# Altium integrated library RC0402FR-075R9L.IntLib: 1 symbol
Pins are listed as number, name and electrical type; pins without a type are passive.

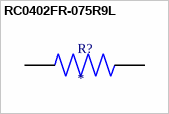
[diagram p0: symbol RC0402FR-075R9L]

## RC0402FR-075R9L
designator R?
Res Thick Film 0402 5.9 Ohm 1% 1/16W Â±200ppm/Â°C Molded SMD Paper T/R; MP: RC0402FR-075R9L; Package: None; Price: None; Value: *; Availability: Unavailable
footprint RESC1005X40N
pins: 1, 2